# Altium schematic symbol library 691 386 700 0xx.SchLib: 17 symbols
Pins are listed as number, name and electrical type; pins without a type are passive.

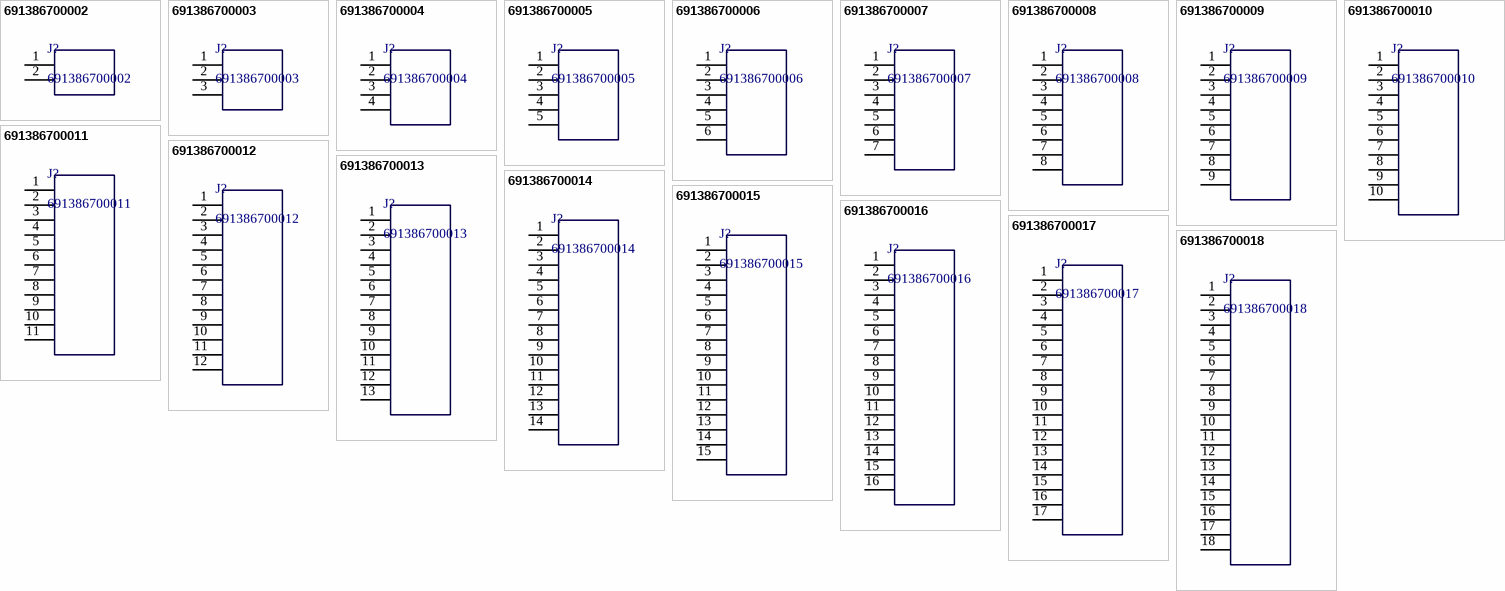
[diagram p0: symbols 691386700002 to 691386700018]

## 691386700002
designator J?
WR-TBL Terminal Blocks Serie 386 – 5.00 mm; Manufacturer: Würth Elektronik eiSos GmbH; ComponentLink1 Description: Manufacturer; ComponentLink2 Description: Datasheet; ComponentLink1URL: http://www.we-online.de; ComponentLink2URL: http://katalog.we-online.de/em/datasheet/6913867000xx.pdf; Created by: Karrer Zheng; Created Date: 10/23/2014; partNo: 691386700002
footprint 691386700002
pins: 1  , 2  

## 691386700003
designator J?
WR-TBL Terminal Blocks Serie 386 – 5.00 mm; Manufacturer: Würth Elektronik eiSos GmbH; ComponentLink1 Description: Manufacturer; ComponentLink2 Description: Datasheet; ComponentLink1URL: http://www.we-online.de; ComponentLink2URL: http://katalog.we-online.de/em/datasheet/6913867000xx.pdf; Created by: Karrer Zheng; Created Date: 10/23/2014; partNo: 691386700003
footprint 691386700003
pins: 1  , 2  , 3  

## 691386700004
designator J?
WR-TBL Terminal Blocks Serie 386 – 5.00 mm; Manufacturer: Würth Elektronik eiSos GmbH; ComponentLink1 Description: Manufacturer; ComponentLink2 Description: Datasheet; ComponentLink1URL: http://www.we-online.de; ComponentLink2URL: http://katalog.we-online.de/em/datasheet/6913867000xx.pdf; Created by: Karrer Zheng; Created Date: 10/23/2014; partNo: 691386700004
footprint 691386700004
pins: 1  , 2  , 3  , 4  

## 691386700005
designator J?
WR-TBL Terminal Blocks Serie 386 – 5.00 mm; Manufacturer: Würth Elektronik eiSos GmbH; ComponentLink1 Description: Manufacturer; ComponentLink2 Description: Datasheet; ComponentLink1URL: http://www.we-online.de; ComponentLink2URL: http://katalog.we-online.de/em/datasheet/6913867000xx.pdf; Created by: Karrer Zheng; Created Date: 10/23/2014; partNo: 691386700005
footprint 691386700005
pins: 1  , 2  , 3  , 4  , 5  

## 691386700006
designator J?
WR-TBL Terminal Blocks Serie 386 – 5.00 mm; Manufacturer: Würth Elektronik eiSos GmbH; ComponentLink1 Description: Manufacturer; ComponentLink2 Description: Datasheet; ComponentLink1URL: http://www.we-online.de; ComponentLink2URL: http://katalog.we-online.de/em/datasheet/6913867000xx.pdf; Created by: Karrer Zheng; Created Date: 10/23/2014; partNo: 691386700006
footprint 691386700006
pins: 1  , 2  , 3  , 4  , 5  , 6  

## 691386700007
designator J?
WR-TBL Terminal Blocks Serie 386 – 5.00 mm; Manufacturer: Würth Elektronik eiSos GmbH; ComponentLink1 Description: Manufacturer; ComponentLink2 Description: Datasheet; ComponentLink1URL: http://www.we-online.de; ComponentLink2URL: http://katalog.we-online.de/em/datasheet/6913867000xx.pdf; Created by: Karrer Zheng; Created Date: 10/23/2014; partNo: 691386700007
footprint 691386700007
pins: 1  , 2  , 3  , 4  , 5  , 6  , 7  

## 691386700008
designator J?
WR-TBL Terminal Blocks Serie 386 – 5.00 mm; Manufacturer: Würth Elektronik eiSos GmbH; ComponentLink1 Description: Manufacturer; ComponentLink2 Description: Datasheet; ComponentLink1URL: http://www.we-online.de; ComponentLink2URL: http://katalog.we-online.de/em/datasheet/6913867000xx.pdf; Created by: Karrer Zheng; Created Date: 10/23/2014; partNo: 691386700008
footprint 691386700008
pins: 1  , 2  , 3  , 4  , 5  , 6  , 7  , 8  

## 691386700009
designator J?
WR-TBL Terminal Blocks Serie 386 – 5.00 mm; Manufacturer: Würth Elektronik eiSos GmbH; ComponentLink1 Description: Manufacturer; ComponentLink2 Description: Datasheet; ComponentLink1URL: http://www.we-online.de; ComponentLink2URL: http://katalog.we-online.de/em/datasheet/6913867000xx.pdf; Created by: Karrer Zheng; Created Date: 10/23/2014; partNo: 691386700009
footprint 691386700009
pins: 1  , 2  , 3  , 4  , 5  , 6  , 7  , 8  , 9  

## 691386700010
designator J?
WR-TBL Terminal Blocks Serie 386 – 5.00 mm; Manufacturer: Würth Elektronik eiSos GmbH; ComponentLink1 Description: Manufacturer; ComponentLink2 Description: Datasheet; ComponentLink1URL: http://www.we-online.de; ComponentLink2URL: http://katalog.we-online.de/em/datasheet/6913867000xx.pdf; Created by: Karrer Zheng; Created Date: 10/23/2014; partNo: 691386700010
footprint 691386700010
pins: 1  , 2  , 3  , 4  , 5  , 6  , 7  , 8  , 9  , 10  

## 691386700011
designator J?
WR-TBL Terminal Blocks Serie 386 – 5.00 mm; Manufacturer: Würth Elektronik eiSos GmbH; ComponentLink1 Description: Manufacturer; ComponentLink2 Description: Datasheet; ComponentLink1URL: http://www.we-online.de; ComponentLink2URL: http://katalog.we-online.de/em/datasheet/6913867000xx.pdf; Created by: Karrer Zheng; Created Date: 10/23/2014; partNo: 691386700011
footprint 691386700011
pins: 1  , 2  , 3  , 4  , 5  , 6  , 7  , 8  , 9  , 10  , 11  

## 691386700012
designator J?
WR-TBL Terminal Blocks Serie 386 – 5.00 mm; Manufacturer: Würth Elektronik eiSos GmbH; ComponentLink1 Description: Manufacturer; ComponentLink2 Description: Datasheet; ComponentLink1URL: http://www.we-online.de; ComponentLink2URL: http://katalog.we-online.de/em/datasheet/6913867000xx.pdf; Created by: Karrer Zheng; Created Date: 10/23/2014; partNo: 691386700012
footprint 691386700012
pins: 1  , 2  , 3  , 4  , 5  , 6  , 7  , 8  , 9  , 10  , 11  , 12  

## 691386700013
designator J?
WR-TBL Terminal Blocks Serie 386 – 5.00 mm; Manufacturer: Würth Elektronik eiSos GmbH; ComponentLink1 Description: Manufacturer; ComponentLink2 Description: Datasheet; ComponentLink1URL: http://www.we-online.de; ComponentLink2URL: http://katalog.we-online.de/em/datasheet/6913867000xx.pdf; Created by: Karrer Zheng; Created Date: 10/23/2014; partNo: 691386700013
footprint 691386700013
pins: 1  , 2  , 3  , 4  , 5  , 6  , 7  , 8  , 9  , 10  , 11  , 12  , 13  

## 691386700014
designator J?
WR-TBL Terminal Blocks Serie 386 – 5.00 mm; Manufacturer: Würth Elektronik eiSos GmbH; ComponentLink1 Description: Manufacturer; ComponentLink2 Description: Datasheet; ComponentLink1URL: http://www.we-online.de; ComponentLink2URL: http://katalog.we-online.de/em/datasheet/6913867000xx.pdf; Created by: Karrer Zheng; Created Date: 10/23/2014; partNo: 691386700014
footprint 691386700014
pins: 1  , 2  , 3  , 4  , 5  , 6  , 7  , 8  , 9  , 10  , 11  , 12  , 13  , 14  

## 691386700015
designator J?
WR-TBL Terminal Blocks Serie 386 – 5.00 mm; Manufacturer: Würth Elektronik eiSos GmbH; ComponentLink1 Description: Manufacturer; ComponentLink2 Description: Datasheet; ComponentLink1URL: http://www.we-online.de; ComponentLink2URL: http://katalog.we-online.de/em/datasheet/6913867000xx.pdf; Created by: Karrer Zheng; Created Date: 10/23/2014; partNo: 691386700015
footprint 691386700015
pins: 1  , 2  , 3  , 4  , 5  , 6  , 7  , 8  , 9  , 10  , 11  , 12  , 13  , 14  , 15  

## 691386700016
designator J?
WR-TBL Terminal Blocks Serie 386 – 5.00 mm; Manufacturer: Würth Elektronik eiSos GmbH; ComponentLink1 Description: Manufacturer; ComponentLink2 Description: Datasheet; ComponentLink1URL: http://www.we-online.de; ComponentLink2URL: http://katalog.we-online.de/em/datasheet/6913867000xx.pdf; Created by: Karrer Zheng; Created Date: 10/23/2014; partNo: 691386700016
footprint 691386700016
pins: 1  , 2  , 3  , 4  , 5  , 6  , 7  , 8  , 9  , 10  , 11  , 12  , 13  , 14  , 15  , 16  

## 691386700017
designator J?
WR-TBL Terminal Blocks Serie 386 – 5.00 mm; Manufacturer: Würth Elektronik eiSos GmbH; ComponentLink1 Description: Manufacturer; ComponentLink2 Description: Datasheet; ComponentLink1URL: http://www.we-online.de; ComponentLink2URL: http://katalog.we-online.de/em/datasheet/6913867000xx.pdf; Created by: Karrer Zheng; Created Date: 10/23/2014; partNo: 691386700017
footprint 691386700017
pins: 1  , 2  , 3  , 4  , 5  , 6  , 7  , 8  , 9  , 10  , 11  , 12  , 13  , 14  , 15  , 16  , 17  

## 691386700018
designator J?
WR-TBL Terminal Blocks Serie 386 – 5.00 mm; Manufacturer: Würth Elektronik eiSos GmbH; ComponentLink1 Description: Manufacturer; ComponentLink2 Description: Datasheet; ComponentLink1URL: http://www.we-online.de; ComponentLink2URL: http://katalog.we-online.de/em/datasheet/6913867000xx.pdf; Created by: Karrer Zheng; Created Date: 10/23/2014; partNo: 691386700018
footprint 691386700018
pins: 1  , 2  , 3  , 4  , 5  , 6  , 7  , 8  , 9  , 10  , 11  , 12  , 13  , 14  , 15  , 16  , 17  , 18  